# EAGLE library part ATTINY441-MU (library FA3D_lib)
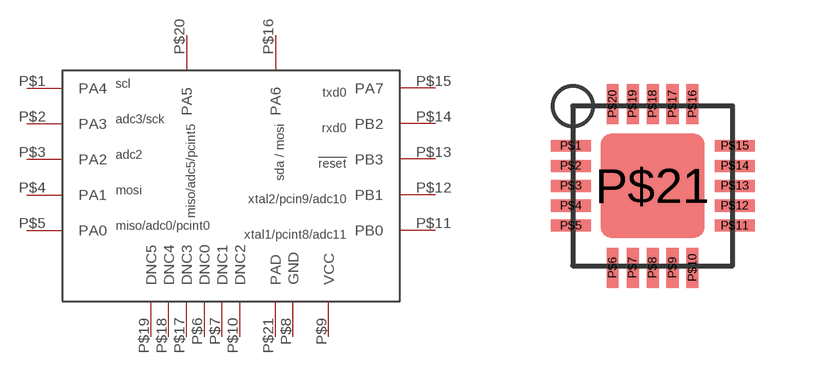
[diagram p8: symbol with the pads of 20-WFQFNEXPOSEDPAD; footprint 20-WFQFNEXPOSEDPAD]

Designator prefix -

## ATTINY441-MU  [20-WFQFNEXPOSEDPAD]
P$1  PA4
P$2  PA3
P$3  PA2
P$4  PA1
P$5  PA0
P$6  DNC0
P$7  DNC1
P$8  GND
P$9  VCC
P$10  DNC2
P$11  PB0
P$12  PB1
P$13  PB3
P$14  PB2
P$15  PA7
P$16  PA6
P$17  DNC3
P$18  DNC4
P$19  DNC5
P$20  PA5
P$21  PAD

## Footprint 20-WFQFNEXPOSEDPAD (pad centres in mm)
smd 1 x 0.3: P$1 -2.05,1; P$2 -2.05,0.5; P$3 -2.05,0; P$4 -2.05,-0.5; P$5 -2.05,-1; P$11 2.05,-1; P$12 2.05,-0.5; P$13 2.05,0; P$14 2.05,0.5; P$15 2.05,1
smd 0.3 x 1: P$6 -1,-2.05; P$7 -0.5,-2.05; P$8 0,-2.05; P$9 0.5,-2.05; P$10 1,-2.05; P$16 1,2.05; P$17 0.5,2.05; P$18 0,2.05; P$19 -0.5,2.05; P$20 -1,2.05
smd 2.6 x 2.6: P$21 0,0